# Altium footprint library Capacitor.PcbLib: 45 footprints (part 3 of 3)
Each footprint in its own frame and in the unit in brackets; x right, y up, seen from the top. Pads: shape width x height; smd on the part's side, far side on the other; paste and mask are expansions set on the pad; w line width, h text height; cw(c..) or ccw(c..) is an arc to the next point about the centre after c.
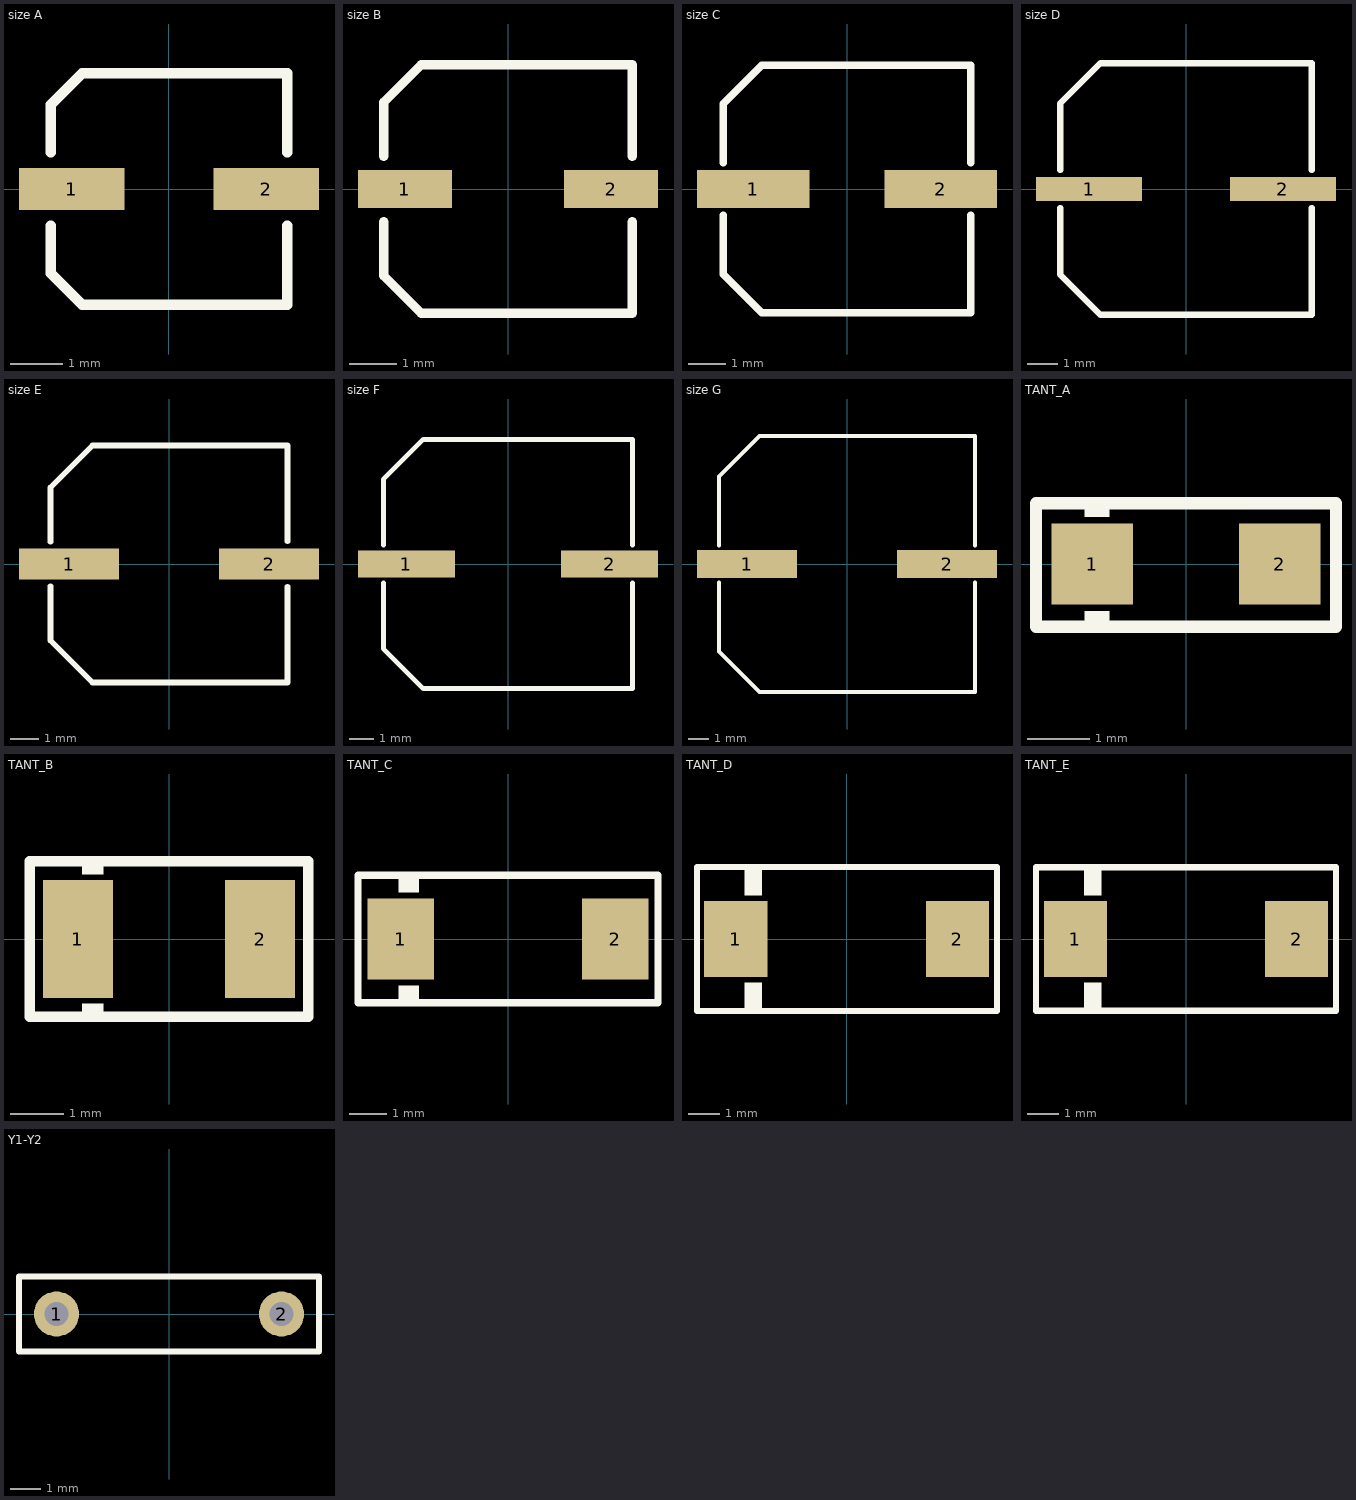
[diagram p2: the footprints below, top view; thin cyan lines are the x and y axes]

## size A [mm] "Electrolytic Capacitors SMD"
height 5.5
pads (2):
  rect 2x0.8 smd: 1(-1.85,0) 2(1.85,0)
Top Overlay:
  lines w0.2: -2.25,-0.7 -2.25,-1.6 -1.65,-2.2 2.25,-2.2 2.25,-0.7 ; -2.25,0.7 -2.25,1.6 -1.65,2.2 2.25,2.2 2.25,0.7
3D body "eSMD_A.STEP": height 5.4, standoff 0, extent -1.8,-1.65 1.8,1.65

## size B [mm] "Electrolytic Capacitors SMD"
height 5.5
pads (2):
  rect 2x0.8 smd: 1(-2.2,0) 2(2.2,0)
Top Overlay:
  lines w0.2: -2.65,-0.7 -2.65,-1.85 -1.85,-2.65 2.65,-2.65 2.65,-0.7 ; -2.65,0.7 -2.65,1.85 -1.85,2.65 2.65,2.65 2.65,0.7
3D body "eSMD_B.STEP": height 5.4, standoff 0, extent -2.3,-2.15 2.3,2.15

## size C [mm] "Electrolytic Capacitors SMD"
height 5.5
pads (2):
  rect 3x1 smd: 1(-2.5,0) 2(2.5,0)
Top Overlay:
  lines w0.2: -3.3,-0.7 -3.3,-2.275 -2.275,-3.3 3.3,-3.3 3.3,-0.7 ; -3.3,0.7 -3.3,2.275 -2.275,3.3 3.3,3.3 3.3,0.7
3D body "eSMD_C.STEP": height 5.41, standoff 0, extent -2.95,-2.65 2.95,2.65

## size D [mm] "Electrolytic Capacitors SMD"
height 6.5
pads (2):
  rect 3.5x0.8 smd: 1(-3.2,0) 2(3.2,0)
Top Overlay:
  lines w0.2: -4.15,-0.625 -4.15,-2.825 -2.825,-4.15 4.15,-4.15 4.15,-0.625 ; -4.15,0.625 -4.15,2.825 -2.825,4.15 4.15,4.15 4.15,0.625
3D body "eSMD_D.STEP": height 5.4, standoff 0, extent -3.5,-3.3 3.5,3.3

## size E [mm] "Electrolytic Capacitors SMD"
height 10.5
pads (2):
  rect 3.5x1.1 smd: 1(-3.5,0) 2(3.5,0)
Top Overlay:
  lines w0.2: -4.15,-0.775 -4.15,-2.675 -2.675,-4.15 4.15,-4.15 4.15,-0.8 ; -4.15,0.775 -4.15,2.675 -2.675,4.15 4.15,4.15 4.15,0.8
3D body "eSMD_E.STEP": height 6.2, standoff 0, extent -4.5,-4.15 4.5,4.15

## size F [mm] "Electrolytic Capacitors SMD"
height 10.5
pads (2):
  rect 4x1.1 smd: 1(-4.2,0) 2(4.2,0)
Top Overlay:
  lines w0.2: -5.15,-0.775 -5.15,-3.5 -3.5,-5.15 5.15,-5.15 5.15,-0.775 ; -5.15,0.775 -5.15,3.5 -3.5,5.15 5.15,5.15 5.15,0.775
3D body "eSMD_F.STEP": height 10.2, standoff 0, extent -4.95,-4.15 4.95,4.15

## size G [mm] "Electrolytic Capacitors SMD"
height 13.5
pads (2):
  rect 5x1.4 smd: 1(-5,0) 2(5,0)
Top Overlay:
  lines w0.2: -6.4,-0.925 -6.4,-4.375 -4.375,-6.4 6.4,-6.4 6.4,-0.925 ; -6.4,0.925 -6.4,4.375 -4.375,6.4 6.4,6.4 6.4,0.925
3D body "eSMD_G.STEP": height 10.2, standoff 0, extent -5.8,-5.15 5.8,5.15

## TANT_A [mm] "Electrolytic Capacitors SMD"
height 1.6
pads (2):
  rect 1.3x1.3 smd: 1(-1.5,0) 2(1.5,0)
Top Overlay:
  rectangle: -1.625,0.75 -1.225,1
  rectangle: -1.625,-1 -1.225,-0.75
  lines w0.2: -2.4,-1 2.4,-1 2.4,0.975 -2.4,0.975 -2.4,-1
3D body "TANT_A.STEP": height 1.6, standoff 0, extent -1.6,-0.8 1.6,0.8

## TANT_B [mm] "Electrolytic Capacitors SMD"
height 1.9
pads (2):
  rect 1.3x2.2 smd: 1(-1.7,0) 2(1.7,0)
Top Overlay:
  rectangle: -1.625,1.2 -1.225,1.45
  rectangle: -1.625,-1.45 -1.225,-1.2
  lines w0.2: -2.6,-1.45 2.6,-1.45 2.6,1.45 -2.6,1.45 -2.6,-1.45
3D body "TANT_B.STEP": height 1.9, standoff 0, extent -1.75,-1.4 1.75,1.4

## TANT_C [mm] "Electrolytic Capacitors SMD"
height 2.6
pads (2):
  rect 1.8x2.2 smd: 1(-2.9,0) 2(2.9,0)
Top Overlay:
  rectangle: -2.95,-1.65 -2.4,-1.25
  rectangle: -2.95,1.25 -2.4,1.65
  lines w0.2: -4.05,-1.725 -4.05,1.725 4.05,1.725 4.05,-1.725 -4.05,-1.725
3D body "TANT_C_.STEP": height 2.5, standoff 0, extent -3,-1.6 3,1.6

## TANT_D [mm] "Electrolytic Capacitors SMD"
height 2.9
pads (2):
  rect 2x2.4 smd: 1(-3.5,0) 2(3.5,0)
Top Overlay:
  rectangle: -3.225,-2.2 -2.675,-1.375
  rectangle: -3.225,1.375 -2.675,2.2
  lines w0.2: -4.725,-2.275 4.75,-2.275 4.75,2.275 -4.725,2.275 -4.725,-2.275
3D body "TANT_D.STEP": height 2.8, standoff 0, extent -3.65,-2.15 3.65,2.15

## TANT_E [mm] "Electrolytic Capacitors SMD"
height 4.1
pads (2):
  rect 2x2.4 smd: 1(-3.5,0) 2(3.5,0)
Top Overlay:
  rectangle: -3.225,1.375 -2.675,2.2
  rectangle: -3.225,-2.2 -2.675,-1.375
  lines w0.2: -4.75,-2.275 4.75,-2.275 4.75,2.275 -4.75,2.275 -4.75,-2.275
3D body "TANT_E.STEP": height 3.1, standoff 0, extent -3.8,-2.3 3.8,2.3

## Y1-Y2 [mm] "Ceramic Capacitors Pin"
height 10
pads (2):
  round 1.5 hole 0.8: 1(-3.75,0) 2(3.75,0)
Top Overlay:
  lines w0.2: -5,-1.25 5,-1.25 5,1.25 -5,1.25 -5,-1.25
3D body "Y1-Y2.STEP": height 9.05, standoff -4.16, extent -4.001,-1.191 4.001,1.191